# Altium integrated library Analog Devices RF IF Timing ICs and Clocks.IntLib: 168 symbols (part 11 of 18)
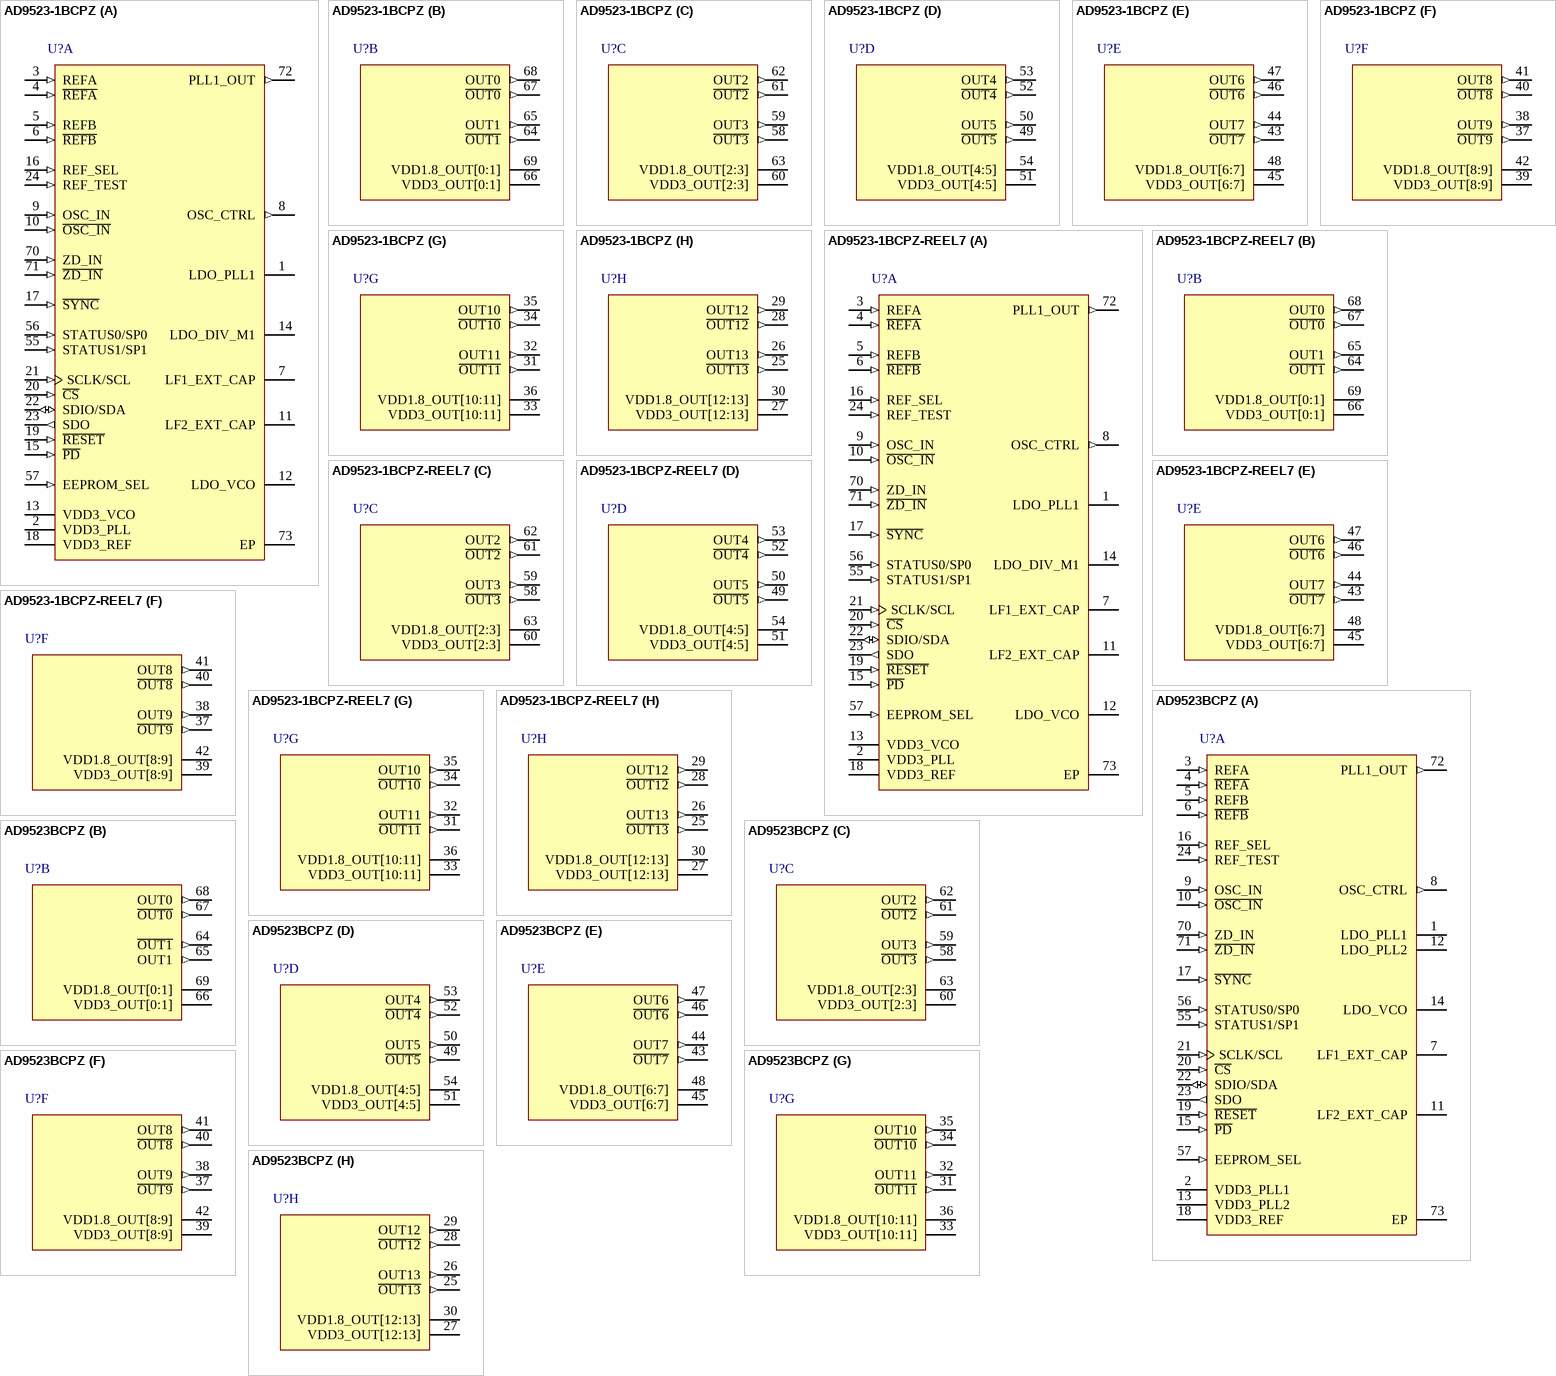
[diagram p25: symbols AD9523-1BCPZ to AD9523BCPZ]

## AD9523-1BCPZ
designator U?
Low Jitter Clock Generator with 14 LVPECL/LVDS/HSTL/29 LVCMOS Outputs, CP-72-7, Pb-Free, 168 Tray; Product Description: Low Jitter, Dual loop Clock Generator; +Supply Voltage (V): 3.3; Inputs: 2; Outputs: 14; On-Chip VCO or DCO: Yes; Max f-out (MHz): 1000; Output Logic: CMOS; HSTL; LVDS; LVPECL; DatasheetVersion: Rev. B; PackageVersion: 052809-A; PackageReference: CP-72-7; PackageDescription: 72-Lead Lead Frame Chip Scale Package [LFCSP_VQ]; Code_JEDEC: MO-220-VNND-4; ComponentLink1Description: Manufacturer URL; ComponentLink1URL: www.analog.com; ComponentLink2Description: Datasheet; ComponentLink2URL: http://www.analog.com/static/imported-files/data_sheets/AD9523-1.pdf; ComponentLink3Description: Package Specification; ComponentLink3URL: http://www.analog.com/static/imported-files/packages/PKG_PDF/LFCSP(CP)/CP_72_7.pdf
footprint ADI-CP-72-7_N (QFN, 72-Leads, Body 10x10mm, Pitch 0.5mm, Thermal Pad 6x6mm, IPC Medium Density)
footprint ADI-CP-72-7_L (QFN, 72-Leads, Body 10x10mm, Pitch 0.5mm, Thermal Pad 6x6mm, IPC High Density)
footprint ADI-CP-72-7_M (QFN, 72-Leads, Body 10x10mm, Pitch 0.5mm, Thermal Pad 6x6mm, IPC Low Density)
part A pins: 1 LDO_PLL1 "1.8 V Internal LDO Regulator Decoupling Pin for PLL1. Connect a 0.47 uF decoupling capacitor from this pin to ground. Note that for best performance, the LDO bypass capacitor must be placed in close proximity to the device.", 2 VDD3_PLL (power) "3.3 V Supply PLL1 and PLL2. Use the same supply as VCXO.", 3 REFA (in) "Reference Clock Input A. Along with R\E\F\A\, this pin is the differential input for the PLL reference. Alternatively, this pin can be programmed as a single-ended 3.3 V CMOS input.", 4 ~{REFA} (in) "Complementary Reference Clock Input A. Along with REFA, this pin is the differential input for the PLL reference. Alternatively, this pin can be programmed as a single-ended 3.3V CMOS input.", 5 REFB (in) "Reference Clock Input B. Along with R\E\F\B\, this pin is the differential input for the PLL reference. Alternatively, this pin can be programmed as a single-ended 3.3 V CMOS input.", 6 ~{REFB} (in) "Complementary Reference Clock Input B. Along with REFB, this pin is the differential input for the PLL reference. Alternatively, this pin can be programmed as a single-ended 3.3 V CMOS input.", 7 LF1_EXT_CAP "PLL1 External Loop Filter Capacitor. Connect this pin to ground.", 8 OSC_CTRL (out) "Oscillator Control Voltage. Connect this pin to the voltage control pin of the external oscillator.", 9 OSC_IN (in) "PLL1 Oscillator Input. Along with O\S\C\_\I\N\, this pin is the differential input for the PLL reference. Alternatively, this pin can be programmed as a single-ended 3.3 V CMOS input.", 10 ~{OSC_IN} (in) "Complementary PLL1 Oscillator Input. Along with OSC_IN, this pin is the differential input for the PLL reference. Alternatively, this pin can be programmed as a single-ended 3.3 V CMOS input.", 11 LF2_EXT_CAP "PLL2 External Loop Filter Capacitor Connection. Connect capacitor to this pin and the LDO_VCO pin.", 12 LDO_VCO "2.5 V LDO Internal Regulator Decoupling Pin for VCO. Connect a 0.47 uF decoupling capacitor from this pin to ground. Note that, for best performance, the LDO bypass capacitor must be placed in close proximity to the device.", 13 VDD3_VCO (power) "3.3 V Supply for VCO and VCO M1 Divider.", 14 LDO_DIV_M1 "1.8 V LDO Regulator Decoupling Pin for VCO Divider M1. Connect a 0.47 uF decoupling capacitor from this pin to ground. Note that, for best performance, the LDO bypass capacitor must be placed in close proximity to the device.", 15 ~{PD} (in) "Chip Power-Down, Active Low. This pin has an internal 40 K ohm pull-up resistor.", 16 REF_SEL (in) "Reference Input Select. This pin has an internal 40 K ohm pull-down resistor.", 17 ~{SYNC} (in) "Manual Synchronization. This pin initiates a manual synchronization and has an internal 40 K ohm pull-up resistor.", 18 VDD3_REF (power) "3.3 V Supply for Output Clock Drivers Reference and VCO Divider M2.", 19 ~{RESET} (in) "Digital Input, Active Low. Resets internal logic to default states. This pin has an internal 40 K ohm pull-up resistor.", 20 ~{CS} (in) "Serial Control Port Chip Select, Active Low. This pin has an internal 40 K ohm pull-up resistor.", 21 SCLK/SCL (in) "Serial Control Port Clock Signal for SPI Mode (SCLK) or I2C Mode (SCL). Data clock for serial program-ming. This pin has an internal 40 K ohm pull-down resistor in SPI mode but is high impedance in I2C mode.", 22 SDIO/SDA (io) "Serial Control Port Bidirectional Serial Data In/Data Out for SPI Mode (SDIO) or I2C Mode (SDA).", 23 SDO (out) "Serial Data Output. Use this pin to read data in 4-wire mode (high impedance in 3-wire mode). There is no internal pull-up/pull-down resistor on this pin.", 24 REF_TEST (in) "Test Input to PLL1 Phase Detector.", 55 STATUS1/SP1 (in) "Lock Detect and Other Status Signals (STATUS1)/I2C Address (SP1). This pin has an internal 40 K ohm pull-down resistor.", 56 STATUS0/SP0 (in) "Lock Detect and Other Status Signals (STATUS0)/I2C Address (SP0). This pin has an internal 40 K ohm pull-down resistor.", 57 EEPROM_SEL (in) "EEPROM Select. Setting this pin high selects the register values stored in the internal EEPROM to be loaded at reset and/or power-up. Setting this pin low causes the AD9523-1 to load the hard-coded default register values at power-up/reset. This pin has", 70 ZD_IN (in) "External Zero Delay Clock Input. Along with Z\D\_\I\N\, this pin is the differential input for the PLL reference. Alternatively, this pin can be programmed as a single-ended 3.3 V CMOS input.", 71 ~{ZD_IN} (in) "Complementary External Zero Delay Clock Input. Along with ZD_IN, this pin is the differential input for the PLL reference. Alternatively, this pin can be programmed as a single-ended 3.3 V CMOS input.", 72 PLL1_OUT (out) "Single-Ended CMOS Output from PLL1. This pin has settings for weak and strong in Register 0x1BA, Bit 4 (see Table 52).", 73 EP (power) "Exposed Paddle. The exposed paddle is the ground connection on the chip. It must be soldered to the analog ground of the PCB to ensure proper functionality and heat dissipation, noise, and mechanical strength benefits."
part B pins: 64 ~{OUT1} (out) "Complementary Square Wave Clocking Output 1. This pin can be configured as one side of a differential LVPECL/LVDS/HSTL output or as a single-ended CMOS output.", 65 OUT1 (out) "Square Wave Clocking Output 1. This pin can be configured as one side of a differential LVPECL/ LVDS/HSTL output or as a single-ended CMOS output.", 66 VDD3_OUT[0:1] (power) "3.3 V Supply for Output 0 and Output 1 Clock Drivers.", 67 ~{OUT0} (out) "Complementary Square Wave Clocking Output 0. This pin can be configured as one side of a differential LVPECL/LVDS/HSTL output or as a single-ended CMOS output.", 68 OUT0 (out) "Square Wave Clocking Output 0. This pin can be configured as one side of a differential LVPECL/ LVDS/HSTL output or as a single-ended CMOS output.", 69 VDD1.8_OUT[0:1] (power) "1.8 V Supply for Output 0 and Output 1 Clock Dividers."
part C pins: 58 ~{OUT3} (out) "Complementary Square Wave Clocking Output 3. This pin can be configured as one side of a differential LVPECL/LVDS/HSTL output or as a single-ended CMOS output.", 59 OUT3 (out) "Square Wave Clocking Output 3. This pin can be configured as one side of a differential LVPECL/ LVDS/HSTL output or as a single-ended CMOS output.", 60 VDD3_OUT[2:3] (power) "3.3 V Supply for Output 2 and Output 3 Clock Drivers.", 61 ~{OUT2} (out) "Complementary Square Wave Clocking Output 2. This pin can be configured as one side of a differential LVPECL/LVDS/HSTL output or as a single-ended CMOS output.", 62 OUT2 (out) "Square Wave Clocking Output 2. This pin can be configured as one side of a differential LVPECL/ LVDS/HSTL output or as a single-ended CMOS output.", 63 VDD1.8_OUT[2:3] (power) "1.8 V Supply for Output 2 and Output 3 Clock Dividers."
part D pins: 49 ~{OUT5} (out) "Complementary Square Wave Clocking Output 5. This pin can be configured as one side of a differential LVPECL/LVDS/HSTL output or as a single-ended CMOS output.", 50 OUT5 (out) "Square Wave Clocking Output 5. This pin can be configured as one side of a differential LVPECL/ LVDS/HSTL output or as a single-ended CMOS output.", 51 VDD3_OUT[4:5] (power) "3.3 V Supply for Output 4 and Output 5 Clock Drivers.", 52 ~{OUT4} (out) "Complementary Square Wave Clocking Output 4. This pin can be configured as one side of a differential LVPECL/LVDS/HSTL output or as a single-ended CMOS output.", 53 OUT4 (out) "Square Wave Clocking Output 4. This pin can be configured as one side of a differential LVPECL/ LVDS/HSTL output or as a single-ended CMOS output.", 54 VDD1.8_OUT[4:5] (power) "1.8 V Supply for Output 4 and Output 5 Clock Dividers."
part E pins: 43 ~{OUT7} (out) "Complementary Square Wave Clocking Output 7. This pin can be configured as one side of a differential LVPECL/LVDS/HSTL output or as a single-ended CMOS output.", 44 OUT7 (out) "Square Wave Clocking Output 7. This pin can be configured as one side of a differential LVPECL/ LVDS/HSTL output or as a single-ended CMOS output.", 45 VDD3_OUT[6:7] (power) "3.3 V Supply for Output 6 and Supply Output 7 Clock Drivers.", 46 ~{OUT6} (out) "Complementary Square Wave Clocking Output 6. This pin can be configured as one side of a differential LVPECL/LVDS/HSTL output or as a single-ended CMOS output.", 47 OUT6 (out) "Square Wave Clocking Output 6. This pin can be configured as one side of a differential LVPECL/ LVDS/HSTL output or as a single-ended CMOS output.", 48 VDD1.8_OUT[6:7] (power) "1.8 V Supply for Output 6 and Output 7 Clock Dividers."
part F pins: 37 ~{OUT9} (out) "Complementary Square Wave Clocking Output 9. This pin can be configured as one side of a differential LVPECL/LVDS/HSTL output or as a single-ended CMOS output.", 38 OUT9 (out) "Square Wave Clocking Output 9. This pin can be configured as one side of a differential LVPECL/ LVDS/HSTL output or as a single-ended CMOS output.", 39 VDD3_OUT[8:9] (power) "3.3 V Supply for Output 8 and Output 9 Clock Drivers.", 40 ~{OUT8} (out) "Complementary Square Wave Clocking Output 8. This pin can be configured as one side of a differential LVPECL/LVDS/HSTL output or as a single-ended CMOS output.", 41 OUT8 (out) "Square Wave Clocking Output 8. This pin can be configured as one side of a differential LVPECL/ LVDS/HSTL output or as a single-ended CMOS output.", 42 VDD1.8_OUT[8:9] (power) "1.8 V Supply for Output 8 and Output 9 Clock Dividers."
part G pins: 31 ~{OUT11} (out) "Complementary Square Wave Clocking Output 11. This pin can be configured as one side of a differential LVPECL/LVDS/HSTL output or as a single-ended CMOS output.", 32 OUT11 (out) "Square Wave Clocking Output 11. This pin can be configured as one side of a differential LVPECL/ LVDS/HSTL output or as a single-ended CMOS output.", 33 VDD3_OUT[10:11] (power) "3.3 V Supply for Output 10 and Output 11 Clock Drivers.", 34 ~{OUT10} (out) "Complementary Square Wave Clocking Output 10. This pin can be configured as one side of a differential LVPECL/LVDS/HSTL output or as a single-ended CMOS output.", 35 OUT10 (out) "Square Wave Clocking Output 10. This pin can be configured as one side of a differential LVPECL/ LVDS/HSTL output or as a single-ended CMOS output.", 36 VDD1.8_OUT[10:11] (power) "1.8 V Supply for Output 10 and Output 11 Clock Dividers."
part H pins: 25 ~{OUT13} (out) "Complementary Square Wave Clocking Output 13. This pin can be configured as one side of a differential LVPECL/LVDS/HSTL output or as a single-ended CMOS output.", 26 OUT13 (out) "Square Wave Clocking Output 13. This pin can be configured as one side of a differential LVPECL/ LVDS/HSTL output or as a single-ended CMOS output.", 27 VDD3_OUT[12:13] (power) "3.3 V Supply for Output 12 and Output 13 Clock Drivers.", 28 ~{OUT12} (out) "Complementary Square Wave Clocking Output 12. This pin can be configured as one side of a differential LVPECL/LVDS/HSTL output or as a single-ended CMOS output.", 29 OUT12 (out) "Square Wave Clocking Output 12. This pin can be configured as one side of a differential LVPECL/ LVDS/HSTL output or as a single-ended CMOS output.", 30 VDD1.8_OUT[12:13] (power) "1.8 V Supply for Output 12 and Output 13 Clock Dividers."

## AD9523-1BCPZ-REEL7
designator U?
Low Jitter Clock Generator with 14 LVPECL/LVDS/HSTL/29 LVCMOS Outputs, CP-72-7, Pb-Free, 400 Reel; Product Description: Low Jitter, Dual loop Clock Generator; +Supply Voltage (V): 3.3; Inputs: 2; Outputs: 14; On-Chip VCO or DCO: Yes; Max f-out (MHz): 1000; Output Logic: CMOS; HSTL; LVDS; LVPECL; DatasheetVersion: Rev. B; PackageVersion: 052809-A; PackageReference: CP-72-7; PackageDescription: 72-Lead Lead Frame Chip Scale Package [LFCSP_VQ]; Code_JEDEC: MO-220-VNND-4; ComponentLink1Description: Manufacturer URL; ComponentLink1URL: www.analog.com; ComponentLink2Description: Datasheet; ComponentLink2URL: http://www.analog.com/static/imported-files/data_sheets/AD9523-1.pdf; ComponentLink3Description: Package Specification; ComponentLink3URL: http://www.analog.com/static/imported-files/packages/PKG_PDF/LFCSP(CP)/CP_72_7.pdf
footprint ADI-CP-72-7_N (QFN, 72-Leads, Body 10x10mm, Pitch 0.5mm, Thermal Pad 6x6mm, IPC Medium Density)
footprint ADI-CP-72-7_L (QFN, 72-Leads, Body 10x10mm, Pitch 0.5mm, Thermal Pad 6x6mm, IPC High Density)
footprint ADI-CP-72-7_M (QFN, 72-Leads, Body 10x10mm, Pitch 0.5mm, Thermal Pad 6x6mm, IPC Low Density)
part A pins: 1 LDO_PLL1 "1.8 V Internal LDO Regulator Decoupling Pin for PLL1. Connect a 0.47 uF decoupling capacitor from this pin to ground. Note that for best performance, the LDO bypass capacitor must be placed in close proximity to the device.", 2 VDD3_PLL (power) "3.3 V Supply PLL1 and PLL2. Use the same supply as VCXO.", 3 REFA (in) "Reference Clock Input A. Along with R\E\F\A\, this pin is the differential input for the PLL reference. Alternatively, this pin can be programmed as a single-ended 3.3 V CMOS input.", 4 ~{REFA} (in) "Complementary Reference Clock Input A. Along with REFA, this pin is the differential input for the PLL reference. Alternatively, this pin can be programmed as a single-ended 3.3V CMOS input.", 5 REFB (in) "Reference Clock Input B. Along with R\E\F\B\, this pin is the differential input for the PLL reference. Alternatively, this pin can be programmed as a single-ended 3.3 V CMOS input.", 6 ~{REFB} (in) "Complementary Reference Clock Input B. Along with REFB, this pin is the differential input for the PLL reference. Alternatively, this pin can be programmed as a single-ended 3.3 V CMOS input.", 7 LF1_EXT_CAP "PLL1 External Loop Filter Capacitor. Connect this pin to ground.", 8 OSC_CTRL (out) "Oscillator Control Voltage. Connect this pin to the voltage control pin of the external oscillator.", 9 OSC_IN (in) "PLL1 Oscillator Input. Along with O\S\C\_\I\N\, this pin is the differential input for the PLL reference. Alternatively, this pin can be programmed as a single-ended 3.3 V CMOS input.", 10 ~{OSC_IN} (in) "Complementary PLL1 Oscillator Input. Along with OSC_IN, this pin is the differential input for the PLL reference. Alternatively, this pin can be programmed as a single-ended 3.3 V CMOS input.", 11 LF2_EXT_CAP "PLL2 External Loop Filter Capacitor Connection. Connect capacitor to this pin and the LDO_VCO pin.", 12 LDO_VCO "2.5 V LDO Internal Regulator Decoupling Pin for VCO. Connect a 0.47 uF decoupling capacitor from this pin to ground. Note that, for best performance, the LDO bypass capacitor must be placed in close proximity to the device.", 13 VDD3_VCO (power) "3.3 V Supply for VCO and VCO M1 Divider.", 14 LDO_DIV_M1 "1.8 V LDO Regulator Decoupling Pin for VCO Divider M1. Connect a 0.47 uF decoupling capacitor from this pin to ground. Note that, for best performance, the LDO bypass capacitor must be placed in close proximity to the device.", 15 ~{PD} (in) "Chip Power-Down, Active Low. This pin has an internal 40 K ohm pull-up resistor.", 16 REF_SEL (in) "Reference Input Select. This pin has an internal 40 K ohm pull-down resistor.", 17 ~{SYNC} (in) "Manual Synchronization. This pin initiates a manual synchronization and has an internal 40 K ohm pull-up resistor.", 18 VDD3_REF (power) "3.3 V Supply for Output Clock Drivers Reference and VCO Divider M2.", 19 ~{RESET} (in) "Digital Input, Active Low. Resets internal logic to default states. This pin has an internal 40 K ohm pull-up resistor.", 20 ~{CS} (in) "Serial Control Port Chip Select, Active Low. This pin has an internal 40 K ohm pull-up resistor.", 21 SCLK/SCL (in) "Serial Control Port Clock Signal for SPI Mode (SCLK) or I2C Mode (SCL). Data clock for serial program-ming. This pin has an internal 40 K ohm pull-down resistor in SPI mode but is high impedance in I2C mode.", 22 SDIO/SDA (io) "Serial Control Port Bidirectional Serial Data In/Data Out for SPI Mode (SDIO) or I2C Mode (SDA).", 23 SDO (out) "Serial Data Output. Use this pin to read data in 4-wire mode (high impedance in 3-wire mode). There is no internal pull-up/pull-down resistor on this pin.", 24 REF_TEST (in) "Test Input to PLL1 Phase Detector.", 55 STATUS1/SP1 (in) "Lock Detect and Other Status Signals (STATUS1)/I2C Address (SP1). This pin has an internal 40 K ohm pull-down resistor.", 56 STATUS0/SP0 (in) "Lock Detect and Other Status Signals (STATUS0)/I2C Address (SP0). This pin has an internal 40 K ohm pull-down resistor.", 57 EEPROM_SEL (in) "EEPROM Select. Setting this pin high selects the register values stored in the internal EEPROM to be loaded at reset and/or power-up. Setting this pin low causes the AD9523-1 to load the hard-coded default register values at power-up/reset. This pin has", 70 ZD_IN (in) "External Zero Delay Clock Input. Along with Z\D\_\I\N\, this pin is the differential input for the PLL reference. Alternatively, this pin can be programmed as a single-ended 3.3 V CMOS input.", 71 ~{ZD_IN} (in) "Complementary External Zero Delay Clock Input. Along with ZD_IN, this pin is the differential input for the PLL reference. Alternatively, this pin can be programmed as a single-ended 3.3 V CMOS input.", 72 PLL1_OUT (out) "Single-Ended CMOS Output from PLL1. This pin has settings for weak and strong in Register 0x1BA, Bit 4 (see Table 52).", 73 EP (power) "Exposed Paddle. The exposed paddle is the ground connection on the chip. It must be soldered to the analog ground of the PCB to ensure proper functionality and heat dissipation, noise, and mechanical strength benefits."
part B pins: 64 ~{OUT1} (out) "Complementary Square Wave Clocking Output 1. This pin can be configured as one side of a differential LVPECL/LVDS/HSTL output or as a single-ended CMOS output.", 65 OUT1 (out) "Square Wave Clocking Output 1. This pin can be configured as one side of a differential LVPECL/ LVDS/HSTL output or as a single-ended CMOS output.", 66 VDD3_OUT[0:1] (power) "3.3 V Supply for Output 0 and Output 1 Clock Drivers.", 67 ~{OUT0} (out) "Complementary Square Wave Clocking Output 0. This pin can be configured as one side of a differential LVPECL/LVDS/HSTL output or as a single-ended CMOS output.", 68 OUT0 (out) "Square Wave Clocking Output 0. This pin can be configured as one side of a differential LVPECL/ LVDS/HSTL output or as a single-ended CMOS output.", 69 VDD1.8_OUT[0:1] (power) "1.8 V Supply for Output 0 and Output 1 Clock Dividers."
part C pins: 58 ~{OUT3} (out) "Complementary Square Wave Clocking Output 3. This pin can be configured as one side of a differential LVPECL/LVDS/HSTL output or as a single-ended CMOS output.", 59 OUT3 (out) "Square Wave Clocking Output 3. This pin can be configured as one side of a differential LVPECL/ LVDS/HSTL output or as a single-ended CMOS output.", 60 VDD3_OUT[2:3] (power) "3.3 V Supply for Output 2 and Output 3 Clock Drivers.", 61 ~{OUT2} (out) "Complementary Square Wave Clocking Output 2. This pin can be configured as one side of a differential LVPECL/LVDS/HSTL output or as a single-ended CMOS output.", 62 OUT2 (out) "Square Wave Clocking Output 2. This pin can be configured as one side of a differential LVPECL/ LVDS/HSTL output or as a single-ended CMOS output.", 63 VDD1.8_OUT[2:3] (power) "1.8 V Supply for Output 2 and Output 3 Clock Dividers."
part D pins: 49 ~{OUT5} (out) "Complementary Square Wave Clocking Output 5. This pin can be configured as one side of a differential LVPECL/LVDS/HSTL output or as a single-ended CMOS output.", 50 OUT5 (out) "Square Wave Clocking Output 5. This pin can be configured as one side of a differential LVPECL/ LVDS/HSTL output or as a single-ended CMOS output.", 51 VDD3_OUT[4:5] (power) "3.3 V Supply for Output 4 and Output 5 Clock Drivers.", 52 ~{OUT4} (out) "Complementary Square Wave Clocking Output 4. This pin can be configured as one side of a differential LVPECL/LVDS/HSTL output or as a single-ended CMOS output.", 53 OUT4 (out) "Square Wave Clocking Output 4. This pin can be configured as one side of a differential LVPECL/ LVDS/HSTL output or as a single-ended CMOS output.", 54 VDD1.8_OUT[4:5] (power) "1.8 V Supply for Output 4 and Output 5 Clock Dividers."
part E pins: 43 ~{OUT7} (out) "Complementary Square Wave Clocking Output 7. This pin can be configured as one side of a differential LVPECL/LVDS/HSTL output or as a single-ended CMOS output.", 44 OUT7 (out) "Square Wave Clocking Output 7. This pin can be configured as one side of a differential LVPECL/ LVDS/HSTL output or as a single-ended CMOS output.", 45 VDD3_OUT[6:7] (power) "3.3 V Supply for Output 6 and Supply Output 7 Clock Drivers.", 46 ~{OUT6} (out) "Complementary Square Wave Clocking Output 6. This pin can be configured as one side of a differential LVPECL/LVDS/HSTL output or as a single-ended CMOS output.", 47 OUT6 (out) "Square Wave Clocking Output 6. This pin can be configured as one side of a differential LVPECL/ LVDS/HSTL output or as a single-ended CMOS output.", 48 VDD1.8_OUT[6:7] (power) "1.8 V Supply for Output 6 and Output 7 Clock Dividers."
part F pins: 37 ~{OUT9} (out) "Complementary Square Wave Clocking Output 9. This pin can be configured as one side of a differential LVPECL/LVDS/HSTL output or as a single-ended CMOS output.", 38 OUT9 (out) "Square Wave Clocking Output 9. This pin can be configured as one side of a differential LVPECL/ LVDS/HSTL output or as a single-ended CMOS output.", 39 VDD3_OUT[8:9] (power) "3.3 V Supply for Output 8 and Output 9 Clock Drivers.", 40 ~{OUT8} (out) "Complementary Square Wave Clocking Output 8. This pin can be configured as one side of a differential LVPECL/LVDS/HSTL output or as a single-ended CMOS output.", 41 OUT8 (out) "Square Wave Clocking Output 8. This pin can be configured as one side of a differential LVPECL/ LVDS/HSTL output or as a single-ended CMOS output.", 42 VDD1.8_OUT[8:9] (power) "1.8 V Supply for Output 8 and Output 9 Clock Dividers."
part G pins: 31 ~{OUT11} (out) "Complementary Square Wave Clocking Output 11. This pin can be configured as one side of a differential LVPECL/LVDS/HSTL output or as a single-ended CMOS output.", 32 OUT11 (out) "Square Wave Clocking Output 11. This pin can be configured as one side of a differential LVPECL/ LVDS/HSTL output or as a single-ended CMOS output.", 33 VDD3_OUT[10:11] (power) "3.3 V Supply for Output 10 and Output 11 Clock Drivers.", 34 ~{OUT10} (out) "Complementary Square Wave Clocking Output 10. This pin can be configured as one side of a differential LVPECL/LVDS/HSTL output or as a single-ended CMOS output.", 35 OUT10 (out) "Square Wave Clocking Output 10. This pin can be configured as one side of a differential LVPECL/ LVDS/HSTL output or as a single-ended CMOS output.", 36 VDD1.8_OUT[10:11] (power) "1.8 V Supply for Output 10 and Output 11 Clock Dividers."
part H pins: 25 ~{OUT13} (out) "Complementary Square Wave Clocking Output 13. This pin can be configured as one side of a differential LVPECL/LVDS/HSTL output or as a single-ended CMOS output.", 26 OUT13 (out) "Square Wave Clocking Output 13. This pin can be configured as one side of a differential LVPECL/ LVDS/HSTL output or as a single-ended CMOS output.", 27 VDD3_OUT[12:13] (power) "3.3 V Supply for Output 12 and Output 13 Clock Drivers.", 28 ~{OUT12} (out) "Complementary Square Wave Clocking Output 12. This pin can be configured as one side of a differential LVPECL/LVDS/HSTL output or as a single-ended CMOS output.", 29 OUT12 (out) "Square Wave Clocking Output 12. This pin can be configured as one side of a differential LVPECL/ LVDS/HSTL output or as a single-ended CMOS output.", 30 VDD1.8_OUT[12:13] (power) "1.8 V Supply for Output 12 and Output 13 Clock Dividers."

## AD9523BCPZ
designator U?
Low Jitter Clock Generator with 14 LVPECL/LVDS/HSTL/29 LVCMOS Outputs, CP-72-6, Pb-Free, 168 Tray; Product Description: Low Jitter, Dual loop Clock Generator; +Supply Voltage (V): 3.3; Inputs: 2; Outputs: 14; On-Chip VCO or DCO: Yes; Output Logic: CMOS; HSTL; LVDS; LVPECL; DatasheetVersion: Rev. B; PackageVersion: 052709-B; PackageReference: CP-72-6; PackageDescription: 72-Lead Lead Frame Chip Scale Package [LFCSP_VQ]; Code_JEDEC: MO-220-VNND-4; ComponentLink1Description: Manufacturer URL; ComponentLink1URL: www.analog.com; ComponentLink2Description: Datasheet; ComponentLink2URL: http://www.analog.com/static/imported-files/data_sheets/AD9523.pdf; ComponentLink3Description: Package Specification; ComponentLink3URL: http://www.analog.com/static/imported-files/packages/PKG_PDF/LFCSP(CP)/CP_72_6.pdf
footprint ADI-CP-72-6_N (QFN, 72-Leads, Body 10x10mm, Pitch 0.5mm, Thermal Pad 5.3x5.3mm, IPC Medium Density)
footprint ADI-CP-72-6_L (QFN, 72-Leads, Body 10x10mm, Pitch 0.5mm, Thermal Pad 5.3x5.3mm, IPC High Density)
footprint ADI-CP-72-6_M (QFN, 72-Leads, Body 10x10mm, Pitch 0.5mm, Thermal Pad 5.3x5.3mm, IPC Low Density)
part A pins: 1 LDO_PLL1 "1.8 V Internal LDO Regulator Decoupling Pin for PLL1. Connect a 0.47 uF decoupling capacitor from this pin to ground. Note that, for best performance, the LDO bypass capacitor must be placed in close proximity to the device.", 2 VDD3_PLL1 (power) "3.3 V Supply PLL1. Use the same supply as VCXO.", 3 REFA (in) "Reference Clock Input A. Along with R\E\F\A\, this pin is the differential input for the PLL reference. Alternatively, this pin can be programmed as a single-ended 3.3 V CMOS input.", 4 ~{REFA} (in) "Complementary Reference Clock Input A. Along with REFA, this pin is the differential input for the PLL reference. Alternatively, this pin can be programmed as a single-ended 3.3V CMOS input.", 5 REFB (in) "Reference Clock Input B. Along with REFB, this pin is the differential input for the PLL reference. Alternatively, this pin can be programmed as a single-ended 3.3 V CMOS input.", 6 ~{REFB} (in) "Complementary Reference Clock Input B. Along with R\E\F\B\, this pin is the differential input for the PLL reference. Alternatively, this pin can be programmed as a single-ended 3.3 V CMOS input.", 7 LF1_EXT_CAP "PLL1 External Loop Filter Capacitor. Connect this pin to ground.", 8 OSC_CTRL (out) "Oscillator Control Voltage. Connect this pin to the voltage control pin of the external oscillator.", 9 OSC_IN (in) "PLL1 Oscillator Input. Along with O\S\C\_\I\N\, this pin is the differential input for the PLL reference. Alternatively, this pin can be programmed as a single-ended 3.3 V CMOS input.", 10 ~{OSC_IN} (in) "Complementary PLL1 Oscillator Input. Along with OSC_IN, this pin is the differential input for the PLL reference. Alternatively, this pin can be programmed as a single-ended 3.3 V CMOS input.", 11 LF2_EXT_CAP "PLL2 External Loop Filter Capacitor Connection. Connect capacitor to this pin and the LDO_VCO pin.", 12 LDO_PLL2 "LDO Decoupling Pin for PLL2 1.8 V Internal Regulator. Connect a 0.47 uF decoupling capacitor from this pin to ground. Note that for best performance, the LDO bypass capacitor must be placed in close proximity to the device.", 13 VDD3_PLL2 (power) "3.3 V Supply for PLL2.", 14 LDO_VCO "2.5 V LDO Internal Regulator Decoupling Pin for VCO. Connect a 0.47 uF decoupling capacitor from this pin to ground. Note that, for best performance, the LDO bypass capacitor must be placed in close proximity to the device.", 15 ~{PD} (in) "Chip Power-Down, Active Low. This pin has an internal 40 K ohm pull-up resistor.", 16 REF_SEL (in) "Reference Input Select. This pin has an internal 40 K ohm pull-down resistor.", 17 ~{SYNC} (in) "Manual Synchronization. This pin initiates a manual synchronization and has an internal 40 K ohm pull-up resistor.", 18 VDD3_REF (power) "3.3 V Supply for Output Clock Drivers Reference.", 19 ~{RESET} (in) "Digital Input, Active Low. Resets internal logic to default states. This pin has an internal 40 K ohm pull-up resistor.", 20 ~{CS} (in) "Serial Control Port Chip Select, Active Low. This pin has an internal 40 K ohm pull-up resistor.", 21 SCLK/SCL (in) "Serial Control Port Clock Signal for SPI Mode (SCLK) or I2C Mode (SCL). Data clock for serial program-ming. This pin has an internal 40 K ohm pull-down resistor in SPI mode but is high impedance in I2C mode.", 22 SDIO/SDA (io) "Serial Control Port Bidirectional Serial Data In/Data Out for SPI Mode (SDIO) or I2C Mode (SDA).", 23 SDO (out) "Serial Data Output. Use this pin to read data in 4-wire mode (high impedance in 3-wire mode). There is no internal pull-up/pull-down resistor on this pin.", 24 REF_TEST (in) "Test Input to PLL1 Phase Detector.", 55 STATUS1/SP1 (in) "Lock Detect and Other Status Signals (STATUS1)/I2C Address (SP1). This pin has an internal 40 K ohm pull-down resistor.", 56 STATUS0/SP0 (in) "Lock Detect and Other Status Signals (STATUS0)/I2C Address (SP0). This pin has an internal 40 K ohm pull-down resistor.", 57 EEPROM_SEL (in) "EEPROM Select. Setting this pin high selects the register values stored in the internal EEPROM to be loaded at reset and/or power-up. Setting this pin low causes the AD9523 to load the hard-coded default register values at power-up/reset. This pin has an", 70 ZD_IN (in) "External Zero Delay Clock Input. Along with Z\D\_\I\N\, this pin is the differential input for the PLL reference. Alternatively, this pin can be programmed as a single-ended 3.3 V CMOS input.", 71 ~{ZD_IN} (in) "Complementary External Zero Delay Clock Input. Along with ZD_IN, this pin is the differential input for the PLL reference. Alternatively, this pin can be programmed as a single-ended 3.3 V CMOS input.", 72 PLL1_OUT (out) "Single-Ended CMOS Output from PLL1. This pin has settings for weak and strong in Register 0x1BA, Bit 4 (see Table 51).", 73 EP (power) "Exposed Paddle. The exposed paddle is the ground connection on the chip. It must be soldered to the analog ground of the PCB to ensure proper functionality and heat dissipation, noise, and mechanical strength benefits."
part B pins: 64 ~{OUT1} (out) "Complementary Square Wave Clocking Output 1. This pin can be configured as one side of a differential LVPECL/LVDS/HSTL output or as a single-ended CMOS output.", 65 OUT1 (out) "Square Wave Clocking Output 1. This pin can be configured as one side of a differential LVPECL/ LVDS/HSTL output or as a single-ended CMOS output.", 66 VDD3_OUT[0:1] (power) "3.3 V Supply for Output 0 and Output 1 Clock Drivers.", 67 ~{OUT0} (out) "Complementary Square Wave Clocking Output 0. This pin can be configured as one side of a differential LVPECL/LVDS/HSTL output or as a single-ended CMOS output.", 68 OUT0 (out) "Square Wave Clocking Output 0. This pin can be configured as one side of a differential LVPECL/ LVDS/HSTL output or as a single-ended CMOS output.", 69 VDD1.8_OUT[0:1] (power) "1.8 V Supply for PLL2."
part C pins: 58 ~{OUT3} (out) "Complementary Square Wave Clocking Output 3. This pin can be configured as one side of a differential LVPECL/LVDS/HSTL output or as a single-ended CMOS output.", 59 OUT3 (out) "Square Wave Clocking Output 3. This pin can be configured as one side of a differential LVPECL/ LVDS/HSTL output or as a single-ended CMOS output.", 60 VDD3_OUT[2:3] (power) "3.3 V Supply for Output 2 and Output 3 Clock Drivers.", 61 ~{OUT2} (out) "Complementary Square Wave Clocking Output 2. This pin can be configured as one side of a differential LVPECL/LVDS/HSTL output or as a single-ended CMOS output.", 62 OUT2 (out) "Square Wave Clocking Output 2. This pin can be configured as one side of a differential LVPECL/ LVDS/HSTL output or as a single-ended CMOS output.", 63 VDD1.8_OUT[2:3] (power) "1.8 V Supply for Output 0, Output 1, Output 2, and Output 3 Clock Dividers."
part D pins: 49 ~{OUT5} (out) "Complementary Square Wave Clocking Output 5. This pin can be configured as one side of a differential LVPECL/LVDS/HSTL output or as a single-ended CMOS output.", 50 OUT5 (out) "Square Wave Clocking Output 5. This pin can be configured as one side of a differential LVPECL/ LVDS/HSTL output or as a single-ended CMOS output.", 51 VDD3_OUT[4:5] (power) "3.3 V Supply for Output 4 and Output 5 Clock Drivers.", 52 ~{OUT4} (out) "Complementary Square Wave Clocking Output 4. This pin can be configured as one side of a differential LVPECL/LVDS/HSTL output or as a single-ended CMOS output.", 53 OUT4 (out) "Square Wave Clocking Output 4. This pin can be configured as one side of a differential LVPECL/ LVDS/HSTL output or as a single-ended CMOS output.", 54 VDD1.8_OUT[4:5] (power) "1.8 V Supply for Output 4 and Output 5 Clock Dividers."
part E pins: 43 ~{OUT7} (out) "Complementary Square Wave Clocking Output 7. This pin can be configured as one side of a differential LVPECL/LVDS/HSTL output or as a single-ended CMOS output.", 44 OUT7 (out) "Square Wave Clocking Output 7. This pin can be configured as one side of a differential LVPECL/ LVDS/HSTL output or as a single-ended CMOS output.", 45 VDD3_OUT[6:7] (power) "3.3 V Supply for Output 6 and Supply Output 7 Clock Drivers.", 46 ~{OUT6} (out) "Complementary Square Wave Clocking Output 6. This pin can be configured as one side of a differential LVPECL/LVDS/HSTL output or as a single-ended CMOS output.", 47 OUT6 (out) "Square Wave Clocking Output 6. This pin can be configured as one side of a differential LVPECL/ LVDS/HSTL output or as a single-ended CMOS output.", 48 VDD1.8_OUT[6:7] (power) "1.8 V Supply for Output 6 and Output 7 Clock Dividers."
part F pins: 37 ~{OUT9} (out) "Complementary Square Wave Clocking Output 9. This pin can be configured as one side of a differential LVPECL/LVDS/HSTL output or as a single-ended CMOS output.", 38 OUT9 (out) "Square Wave Clocking Output 9. This pin can be configured as one side of a differential LVPECL/ LVDS/HSTL output or as a single-ended CMOS output.", 39 VDD3_OUT[8:9] (power) "3.3 V Supply for Output 8 and Output 9 Clock Drivers.", 40 ~{OUT8} (out) "Complementary Square Wave Clocking Output 8. This pin can be configured as one side of a differential LVPECL/LVDS/HSTL output or as a single-ended CMOS output.", 41 OUT8 (out) "Square Wave Clocking Output 8. This pin can be configured as one side of a differential LVPECL/ LVDS/HSTL output or as a single-ended CMOS output.", 42 VDD1.8_OUT[8:9] (power) "1.8 V Supply for Output 8 and Output 9 Clock Dividers."
part G pins: 31 ~{OUT11} (out) "Complementary Square Wave Clocking Output 11. This pin can be configured as one side of a differential LVPECL/LVDS/HSTL output or as a single-ended CMOS output.", 32 OUT11 (out) "Square Wave Clocking Output 11. This pin can be configured as one side of a differential LVPECL/ LVDS/HSTL output or as a single-ended CMOS output.", 33 VDD3_OUT[10:11] (power) "3.3 V Supply for Output 10 and Output 11 Clock Drivers.", 34 ~{OUT10} (out) "Complementary Square Wave Clocking Output 10. This pin can be configured as one side of a differential LVPECL/LVDS/HSTL output or as a single-ended CMOS output.", 35 OUT10 (out) "Square Wave Clocking Output 10. This pin can be configured as one side of a differential LVPECL/ LVDS/HSTL output or as a single-ended CMOS output.", 36 VDD1.8_OUT[10:11] (power) "1.8 V Supply for Output 10 and Output 11 Clock Dividers."
part H pins: 25 ~{OUT13} (out) "Complementary Square Wave Clocking Output 13. This pin can be configured as one side of a differential LVPECL/LVDS/HSTL output or as a single-ended CMOS output.", 26 OUT13 (out) "Square Wave Clocking Output 13. This pin can be configured as one side of a differential LVPECL/ LVDS/HSTL output or as a single-ended CMOS output.", 27 VDD3_OUT[12:13] (power) "3.3 V Supply for Output 12 and Output 13 Clock Drivers.", 28 ~{OUT12} (out) "Complementary Square Wave Clocking Output 12. This pin can be configured as one side of a differential LVPECL/LVDS/HSTL output or as a single-ended CMOS output.", 29 OUT12 (out) "Square Wave Clocking Output 12. This pin can be configured as one side of a differential LVPECL/ LVDS/HSTL output or as a single-ended CMOS output.", 30 VDD1.8_OUT[12:13] (power) "1.8 V Supply for Output 12 and Output 13 Clock Dividers."

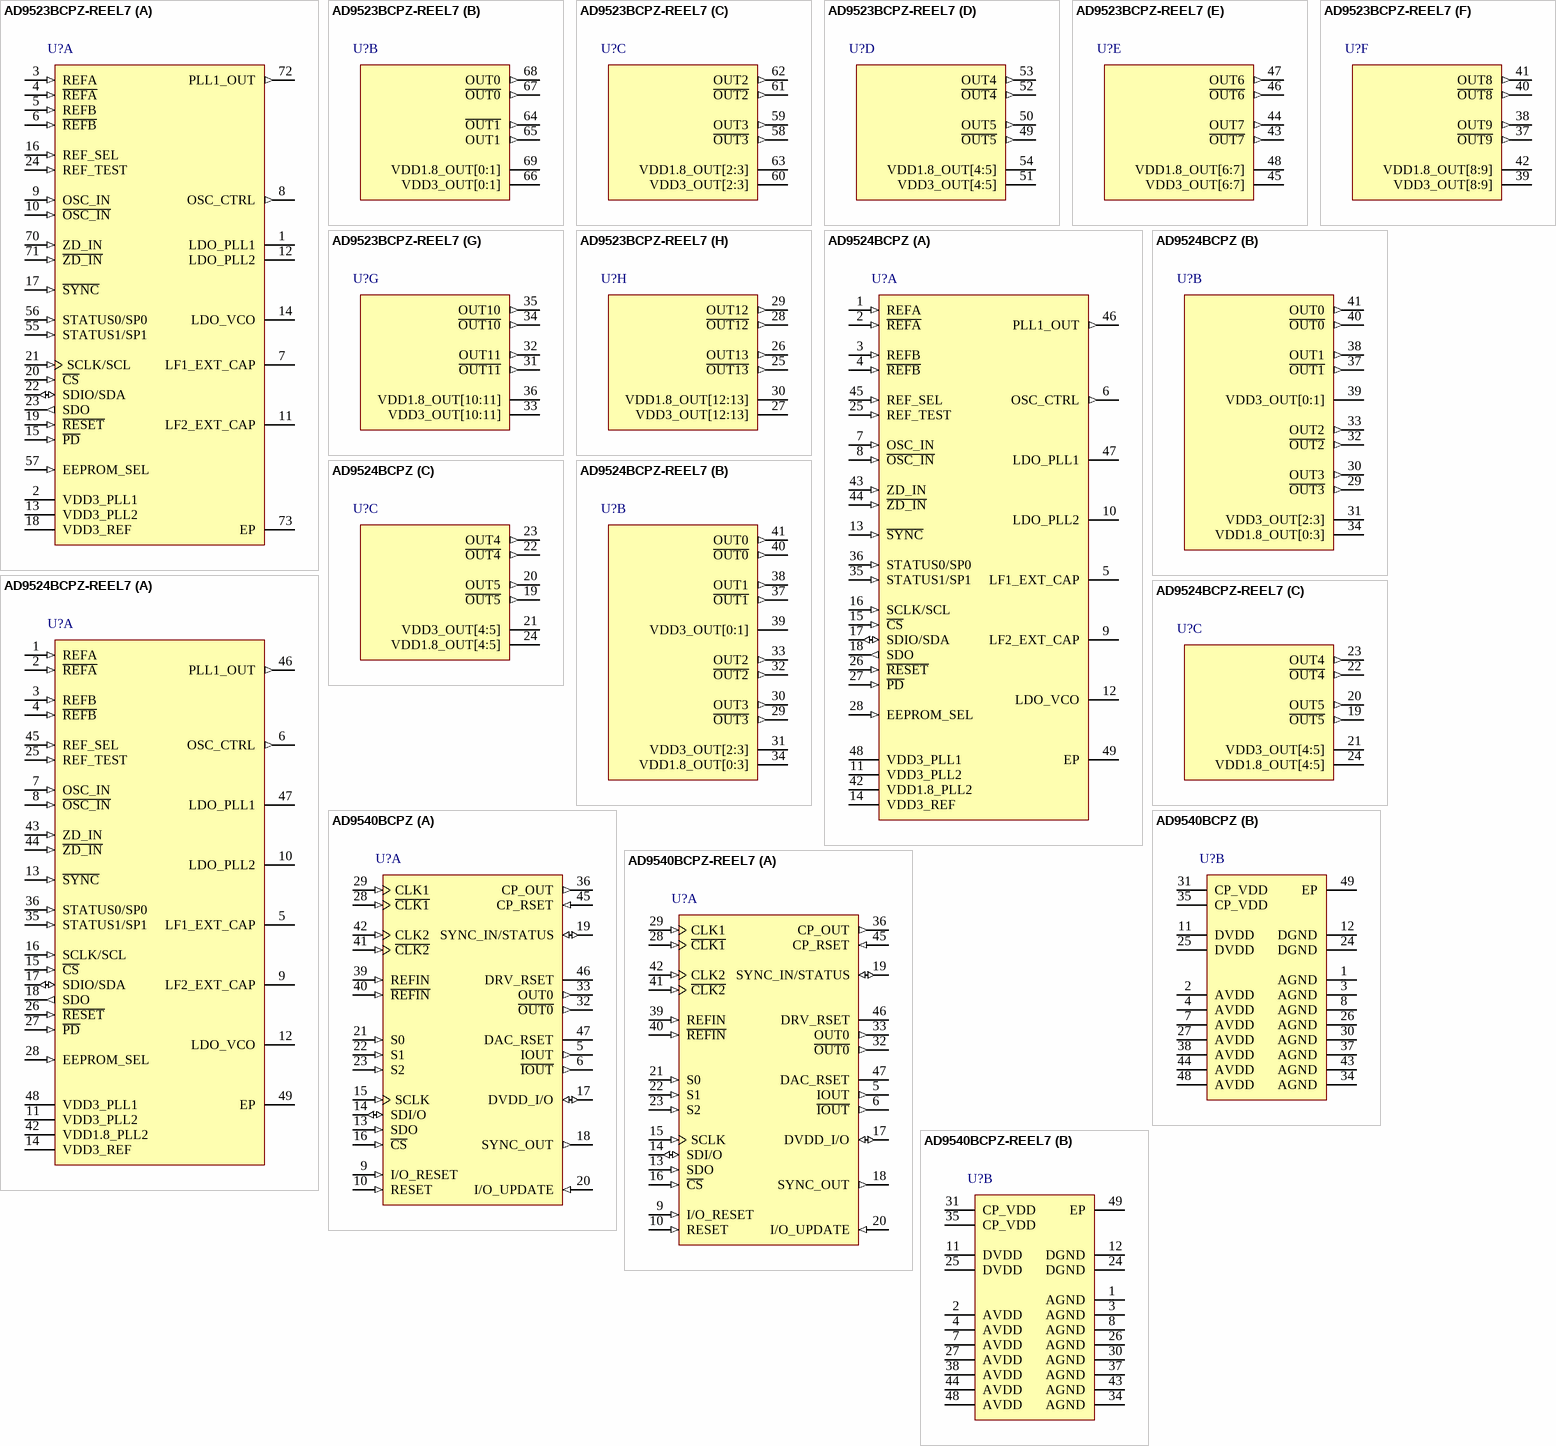
[diagram p9: symbols AD9523BCPZ-REEL7 to AD9540BCPZ-REEL7]

## AD9523BCPZ-REEL7
designator U?
Low Jitter Clock Generator with 14 LVPECL/LVDS/HSTL/29 LVCMOS Outputs, CP-72-6, Pb-Free, 400 Reel; Product Description: Low Jitter, Dual loop Clock Generator; +Supply Voltage (V): 3.3; Inputs: 2; Outputs: 14; On-Chip VCO or DCO: Yes; Output Logic: CMOS; HSTL; LVDS; LVPECL; DatasheetVersion: Rev. B; PackageVersion: 052709-B; PackageReference: CP-72-6; PackageDescription: 72-Lead Lead Frame Chip Scale Package [LFCSP_VQ]; Code_JEDEC: MO-220-VNND-4; ComponentLink1Description: Manufacturer URL; ComponentLink1URL: www.analog.com; ComponentLink2Description: Datasheet; ComponentLink2URL: http://www.analog.com/static/imported-files/data_sheets/AD9523.pdf; ComponentLink3Description: Package Specification; ComponentLink3URL: http://www.analog.com/static/imported-files/packages/PKG_PDF/LFCSP(CP)/CP_72_6.pdf
footprint ADI-CP-72-6_N (QFN, 72-Leads, Body 10x10mm, Pitch 0.5mm, Thermal Pad 5.3x5.3mm, IPC Medium Density)
footprint ADI-CP-72-6_L (QFN, 72-Leads, Body 10x10mm, Pitch 0.5mm, Thermal Pad 5.3x5.3mm, IPC High Density)
footprint ADI-CP-72-6_M (QFN, 72-Leads, Body 10x10mm, Pitch 0.5mm, Thermal Pad 5.3x5.3mm, IPC Low Density)
part A pins: 1 LDO_PLL1 "1.8 V Internal LDO Regulator Decoupling Pin for PLL1. Connect a 0.47 uF decoupling capacitor from this pin to ground. Note that, for best performance, the LDO bypass capacitor must be placed in close proximity to the device.", 2 VDD3_PLL1 (power) "3.3 V Supply PLL1. Use the same supply as VCXO.", 3 REFA (in) "Reference Clock Input A. Along with R\E\F\A\, this pin is the differential input for the PLL reference. Alternatively, this pin can be programmed as a single-ended 3.3 V CMOS input.", 4 ~{REFA} (in) "Complementary Reference Clock Input A. Along with REFA, this pin is the differential input for the PLL reference. Alternatively, this pin can be programmed as a single-ended 3.3V CMOS input.", 5 REFB (in) "Reference Clock Input B. Along with REFB, this pin is the differential input for the PLL reference. Alternatively, this pin can be programmed as a single-ended 3.3 V CMOS input.", 6 ~{REFB} (in) "Complementary Reference Clock Input B. Along with R\E\F\B\, this pin is the differential input for the PLL reference. Alternatively, this pin can be programmed as a single-ended 3.3 V CMOS input.", 7 LF1_EXT_CAP "PLL1 External Loop Filter Capacitor. Connect this pin to ground.", 8 OSC_CTRL (out) "Oscillator Control Voltage. Connect this pin to the voltage control pin of the external oscillator.", 9 OSC_IN (in) "PLL1 Oscillator Input. Along with O\S\C\_\I\N\, this pin is the differential input for the PLL reference. Alternatively, this pin can be programmed as a single-ended 3.3 V CMOS input.", 10 ~{OSC_IN} (in) "Complementary PLL1 Oscillator Input. Along with OSC_IN, this pin is the differential input for the PLL reference. Alternatively, this pin can be programmed as a single-ended 3.3 V CMOS input.", 11 LF2_EXT_CAP "PLL2 External Loop Filter Capacitor Connection. Connect capacitor to this pin and the LDO_VCO pin.", 12 LDO_PLL2 "LDO Decoupling Pin for PLL2 1.8 V Internal Regulator. Connect a 0.47 uF decoupling capacitor from this pin to ground. Note that for best performance, the LDO bypass capacitor must be placed in close proximity to the device.", 13 VDD3_PLL2 (power) "3.3 V Supply for PLL2.", 14 LDO_VCO "2.5 V LDO Internal Regulator Decoupling Pin for VCO. Connect a 0.47 uF decoupling capacitor from this pin to ground. Note that, for best performance, the LDO bypass capacitor must be placed in close proximity to the device.", 15 ~{PD} (in) "Chip Power-Down, Active Low. This pin has an internal 40 K ohm pull-up resistor.", 16 REF_SEL (in) "Reference Input Select. This pin has an internal 40 K ohm pull-down resistor.", 17 ~{SYNC} (in) "Manual Synchronization. This pin initiates a manual synchronization and has an internal 40 K ohm pull-up resistor.", 18 VDD3_REF (power) "3.3 V Supply for Output Clock Drivers Reference.", 19 ~{RESET} (in) "Digital Input, Active Low. Resets internal logic to default states. This pin has an internal 40 K ohm pull-up resistor.", 20 ~{CS} (in) "Serial Control Port Chip Select, Active Low. This pin has an internal 40 K ohm pull-up resistor.", 21 SCLK/SCL (in) "Serial Control Port Clock Signal for SPI Mode (SCLK) or I2C Mode (SCL). Data clock for serial program-ming. This pin has an internal 40 K ohm pull-down resistor in SPI mode but is high impedance in I2C mode.", 22 SDIO/SDA (io) "Serial Control Port Bidirectional Serial Data In/Data Out for SPI Mode (SDIO) or I2C Mode (SDA).", 23 SDO (out) "Serial Data Output. Use this pin to read data in 4-wire mode (high impedance in 3-wire mode). There is no internal pull-up/pull-down resistor on this pin.", 24 REF_TEST (in) "Test Input to PLL1 Phase Detector.", 55 STATUS1/SP1 (in) "Lock Detect and Other Status Signals (STATUS1)/I2C Address (SP1). This pin has an internal 40 K ohm pull-down resistor.", 56 STATUS0/SP0 (in) "Lock Detect and Other Status Signals (STATUS0)/I2C Address (SP0). This pin has an internal 40 K ohm pull-down resistor.", 57 EEPROM_SEL (in) "EEPROM Select. Setting this pin high selects the register values stored in the internal EEPROM to be loaded at reset and/or power-up. Setting this pin low causes the AD9523 to load the hard-coded default register values at power-up/reset. This pin has an", 70 ZD_IN (in) "External Zero Delay Clock Input. Along with Z\D\_\I\N\, this pin is the differential input for the PLL reference. Alternatively, this pin can be programmed as a single-ended 3.3 V CMOS input.", 71 ~{ZD_IN} (in) "Complementary External Zero Delay Clock Input. Along with ZD_IN, this pin is the differential input for the PLL reference. Alternatively, this pin can be programmed as a single-ended 3.3 V CMOS input.", 72 PLL1_OUT (out) "Single-Ended CMOS Output from PLL1. This pin has settings for weak and strong in Register 0x1BA, Bit 4 (see Table 51).", 73 EP (power) "Exposed Paddle. The exposed paddle is the ground connection on the chip. It must be soldered to the analog ground of the PCB to ensure proper functionality and heat dissipation, noise, and mechanical strength benefits."
part B pins: 64 ~{OUT1} (out) "Complementary Square Wave Clocking Output 1. This pin can be configured as one side of a differential LVPECL/LVDS/HSTL output or as a single-ended CMOS output.", 65 OUT1 (out) "Square Wave Clocking Output 1. This pin can be configured as one side of a differential LVPECL/ LVDS/HSTL output or as a single-ended CMOS output.", 66 VDD3_OUT[0:1] (power) "3.3 V Supply for Output 0 and Output 1 Clock Drivers.", 67 ~{OUT0} (out) "Complementary Square Wave Clocking Output 0. This pin can be configured as one side of a differential LVPECL/LVDS/HSTL output or as a single-ended CMOS output.", 68 OUT0 (out) "Square Wave Clocking Output 0. This pin can be configured as one side of a differential LVPECL/ LVDS/HSTL output or as a single-ended CMOS output.", 69 VDD1.8_OUT[0:1] (power) "1.8 V Supply for PLL2."
part C pins: 58 ~{OUT3} (out) "Complementary Square Wave Clocking Output 3. This pin can be configured as one side of a differential LVPECL/LVDS/HSTL output or as a single-ended CMOS output.", 59 OUT3 (out) "Square Wave Clocking Output 3. This pin can be configured as one side of a differential LVPECL/ LVDS/HSTL output or as a single-ended CMOS output.", 60 VDD3_OUT[2:3] (power) "3.3 V Supply for Output 2 and Output 3 Clock Drivers.", 61 ~{OUT2} (out) "Complementary Square Wave Clocking Output 2. This pin can be configured as one side of a differential LVPECL/LVDS/HSTL output or as a single-ended CMOS output.", 62 OUT2 (out) "Square Wave Clocking Output 2. This pin can be configured as one side of a differential LVPECL/ LVDS/HSTL output or as a single-ended CMOS output.", 63 VDD1.8_OUT[2:3] (power) "1.8 V Supply for Output 0, Output 1, Output 2, and Output 3 Clock Dividers."
part D pins: 49 ~{OUT5} (out) "Complementary Square Wave Clocking Output 5. This pin can be configured as one side of a differential LVPECL/LVDS/HSTL output or as a single-ended CMOS output.", 50 OUT5 (out) "Square Wave Clocking Output 5. This pin can be configured as one side of a differential LVPECL/ LVDS/HSTL output or as a single-ended CMOS output.", 51 VDD3_OUT[4:5] (power) "3.3 V Supply for Output 4 and Output 5 Clock Drivers.", 52 ~{OUT4} (out) "Complementary Square Wave Clocking Output 4. This pin can be configured as one side of a differential LVPECL/LVDS/HSTL output or as a single-ended CMOS output.", 53 OUT4 (out) "Square Wave Clocking Output 4. This pin can be configured as one side of a differential LVPECL/ LVDS/HSTL output or as a single-ended CMOS output.", 54 VDD1.8_OUT[4:5] (power) "1.8 V Supply for Output 4 and Output 5 Clock Dividers."
part E pins: 43 ~{OUT7} (out) "Complementary Square Wave Clocking Output 7. This pin can be configured as one side of a differential LVPECL/LVDS/HSTL output or as a single-ended CMOS output.", 44 OUT7 (out) "Square Wave Clocking Output 7. This pin can be configured as one side of a differential LVPECL/ LVDS/HSTL output or as a single-ended CMOS output.", 45 VDD3_OUT[6:7] (power) "3.3 V Supply for Output 6 and Supply Output 7 Clock Drivers.", 46 ~{OUT6} (out) "Complementary Square Wave Clocking Output 6. This pin can be configured as one side of a differential LVPECL/LVDS/HSTL output or as a single-ended CMOS output.", 47 OUT6 (out) "Square Wave Clocking Output 6. This pin can be configured as one side of a differential LVPECL/ LVDS/HSTL output or as a single-ended CMOS output.", 48 VDD1.8_OUT[6:7] (power) "1.8 V Supply for Output 6 and Output 7 Clock Dividers."
part F pins: 37 ~{OUT9} (out) "Complementary Square Wave Clocking Output 9. This pin can be configured as one side of a differential LVPECL/LVDS/HSTL output or as a single-ended CMOS output.", 38 OUT9 (out) "Square Wave Clocking Output 9. This pin can be configured as one side of a differential LVPECL/ LVDS/HSTL output or as a single-ended CMOS output.", 39 VDD3_OUT[8:9] (power) "3.3 V Supply for Output 8 and Output 9 Clock Drivers.", 40 ~{OUT8} (out) "Complementary Square Wave Clocking Output 8. This pin can be configured as one side of a differential LVPECL/LVDS/HSTL output or as a single-ended CMOS output.", 41 OUT8 (out) "Square Wave Clocking Output 8. This pin can be configured as one side of a differential LVPECL/ LVDS/HSTL output or as a single-ended CMOS output.", 42 VDD1.8_OUT[8:9] (power) "1.8 V Supply for Output 8 and Output 9 Clock Dividers."
part G pins: 31 ~{OUT11} (out) "Complementary Square Wave Clocking Output 11. This pin can be configured as one side of a differential LVPECL/LVDS/HSTL output or as a single-ended CMOS output.", 32 OUT11 (out) "Square Wave Clocking Output 11. This pin can be configured as one side of a differential LVPECL/ LVDS/HSTL output or as a single-ended CMOS output.", 33 VDD3_OUT[10:11] (power) "3.3 V Supply for Output 10 and Output 11 Clock Drivers.", 34 ~{OUT10} (out) "Complementary Square Wave Clocking Output 10. This pin can be configured as one side of a differential LVPECL/LVDS/HSTL output or as a single-ended CMOS output.", 35 OUT10 (out) "Square Wave Clocking Output 10. This pin can be configured as one side of a differential LVPECL/ LVDS/HSTL output or as a single-ended CMOS output.", 36 VDD1.8_OUT[10:11] (power) "1.8 V Supply for Output 10 and Output 11 Clock Dividers."
part H pins: 25 ~{OUT13} (out) "Complementary Square Wave Clocking Output 13. This pin can be configured as one side of a differential LVPECL/LVDS/HSTL output or as a single-ended CMOS output.", 26 OUT13 (out) "Square Wave Clocking Output 13. This pin can be configured as one side of a differential LVPECL/ LVDS/HSTL output or as a single-ended CMOS output.", 27 VDD3_OUT[12:13] (power) "3.3 V Supply for Output 12 and Output 13 Clock Drivers.", 28 ~{OUT12} (out) "Complementary Square Wave Clocking Output 12. This pin can be configured as one side of a differential LVPECL/LVDS/HSTL output or as a single-ended CMOS output.", 29 OUT12 (out) "Square Wave Clocking Output 12. This pin can be configured as one side of a differential LVPECL/ LVDS/HSTL output or as a single-ended CMOS output.", 30 VDD1.8_OUT[12:13] (power) "1.8 V Supply for Output 12 and Output 13 Clock Dividers."